# Altium footprint library Inductor_SMD.PcbLib: 587 footprints (part 12 of 37)
Each footprint in its own frame and in the unit in brackets; x right, y up, seen from the top. Pads: shape width x height; smd on the part's side, far side on the other; paste and mask are expansions set on the pad; w line width, h text height; cw(c..) or ccw(c..) is an arc to the next point about the centre after c.
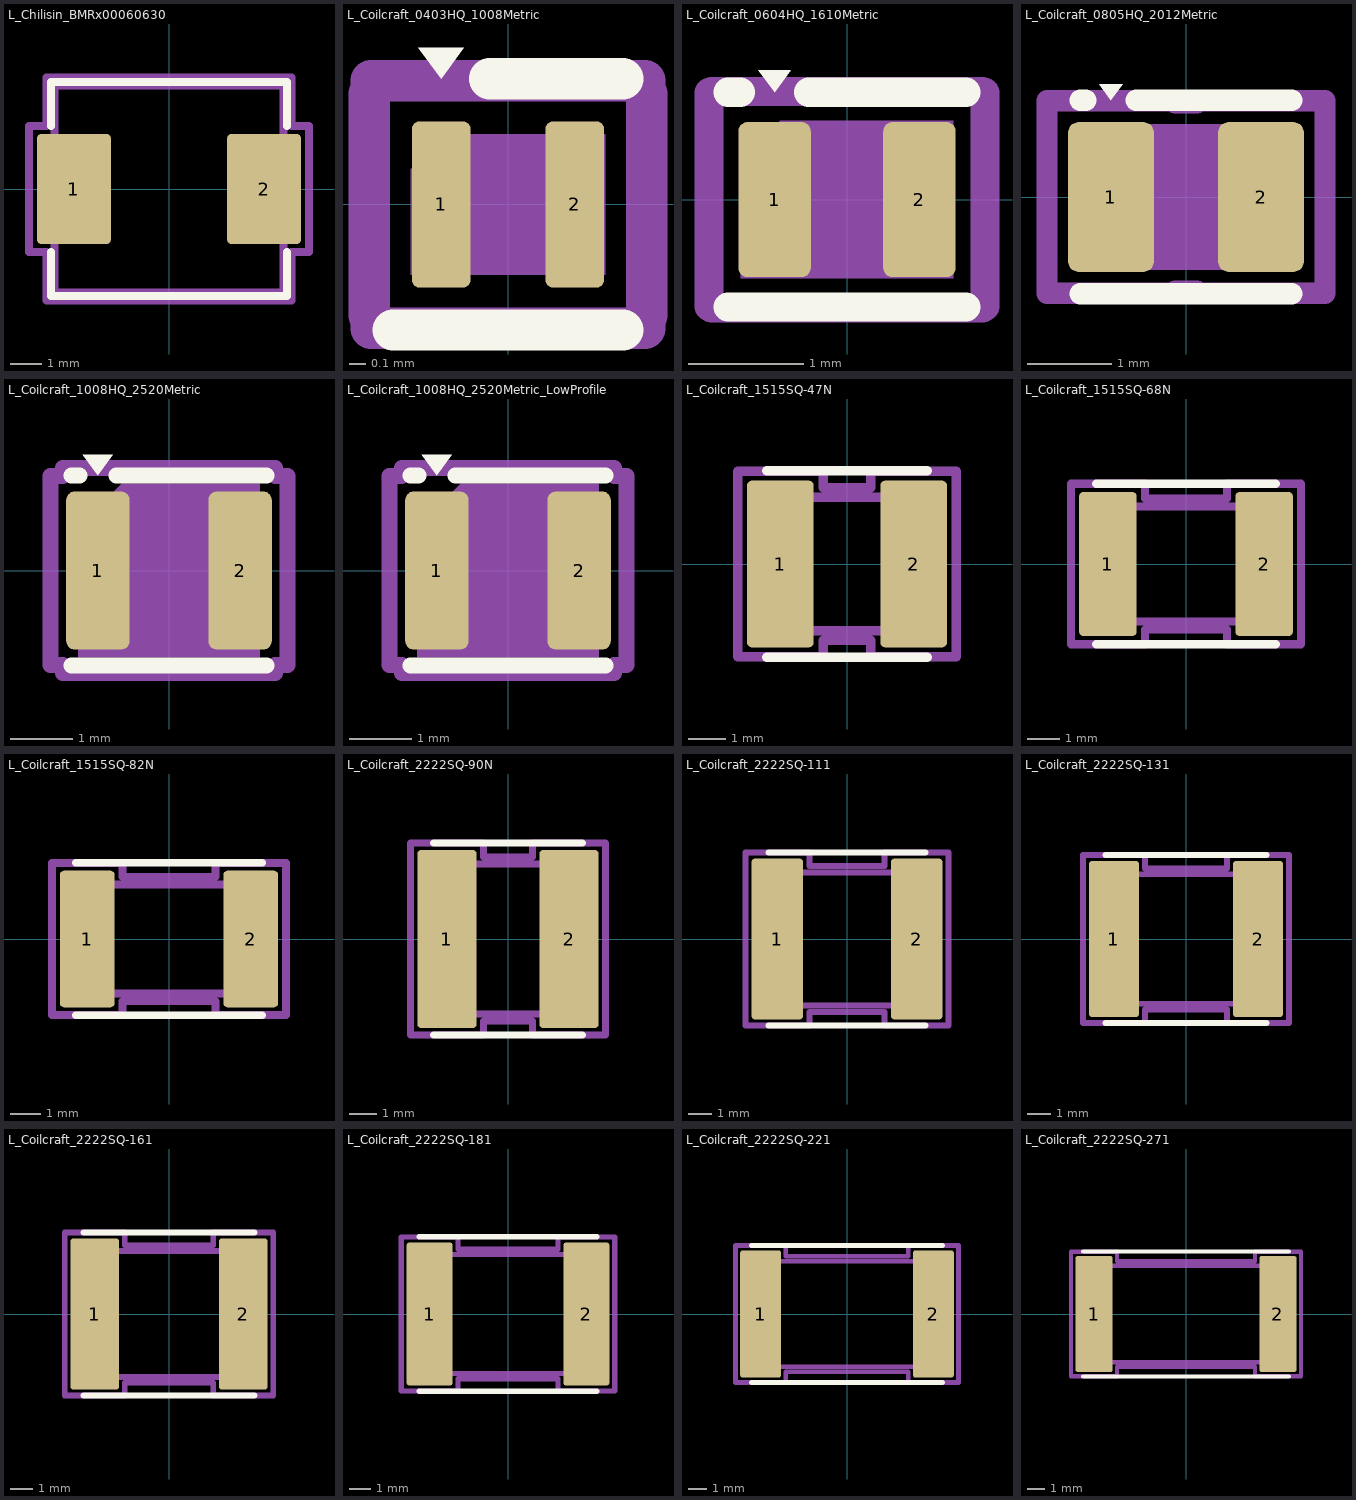
[diagram p11: the footprints below, top view; thin cyan lines are the x and y axes]

## L_Chilisin_BMRx00060630 [mm] "L_Chilisin_BMRx00060630"
pads (2):
  rrect11% 2.35x3.5 smd: 1(-3.025,0) 2(3.025,0)
F.SilkS:
  lines w0.254: -3.76,-2.01 -3.76,-3.41 3.76,-3.41 3.76,-2.01 ; -3.76,2.01 -3.76,3.41 3.76,3.41 3.76,2.01
Top Assembly:
  lines w0.254: -3.65,-3.3 -3.65,3.3 3.65,3.3 3.65,-3.3 -3.65,-3.3
  text "'.Designator'" at -4.047,-0.84 h1
Top Courtyard:
  lines w0.254: -4.45,-2 -4.45,2 -3.9,2 -3.9,3.55 3.9,3.55 3.9,2 4.45,2 4.45,-2 3.9,-2 3.9,-3.55 -3.9,-3.55 -3.9,-2 -4.45,-2
Top Designator:
  text ".Designator" at -7.618,-0.508 h1.52
3D body "L_Chilisin_BMRx00060630.step": height 3, standoff 0, extent -3.655,-3.3 3.655,3.3

## L_Coilcraft_0403HQ_1008Metric [mm] "L_Coilcraft_0403HQ_1008Metric"
pads (2):
  rrect25% 0.36x1.02 smd: 1(-0.41,0) 2(0.41,0)
F.SilkS:
  region: -0.41,0.77 -0.55,0.96 -0.27,0.96
  lines w0.254: -0.705,-0.77 0.705,-0.77 ; -0.112,0.77 0.705,0.77
Top Assembly:
  region: 0.595,-0.43 -0.595,-0.43 -0.595,0.215 -0.38,0.43 0.595,0.43
  lines w0.254: -0.395,-0.215 -0.395,0.215
  text "'.Designator'" at -1.209,-0.247 h0.3
Top Courtyard:
  lines w0.254: -0.85,-0.68 -0.85,0.68 -0.84,0.68 -0.84,0.76 0.84,0.76 0.84,0.68 0.85,0.68 0.85,-0.68 0.84,-0.68 0.84,-0.76 -0.84,-0.76 -0.84,-0.68 -0.85,-0.68
Top Designator:
  text ".Designator" at -7.658,-0.476 h1.52

## L_Coilcraft_0604HQ_1610Metric [mm] "L_Coilcraft_0604HQ_1610Metric"
pads (2):
  rrect25% 0.63x1.35 smd: 1(-0.63,0) 2(0.63,0)
F.SilkS:
  region: -0.63,0.935 -0.77,1.125 -0.49,1.125
  lines w0.254: -1.035,-0.935 1.035,-0.935 ; -1.035,0.935 -0.928,0.935 ; -0.332,0.935 1.035,0.935
Top Assembly:
  region: 0.925,-0.685 -0.925,-0.685 -0.925,0.343 -0.583,0.685 0.925,0.685
  lines w0.254: -0.725,-0.343 -0.725,0.343
  text "'.Designator'" at -1.863,-0.388 h0.46
Top Courtyard:
  lines w0.254: -1.2,-0.93 -1.2,0.93 -1.18,0.93 -1.18,0.94 1.18,0.94 1.18,0.93 1.2,0.93 1.2,-0.93 1.18,-0.93 1.18,-0.94 -1.18,-0.94 -1.18,-0.93 -1.2,-0.93
Top Designator:
  text ".Designator" at -7.688,-0.479 h1.52

## L_Coilcraft_0805HQ_2012Metric [mm] "L_Coilcraft_0805HQ_2012Metric"
pads (2):
  rrect25% 1.02x1.78 smd: 1(-0.89,0) 2(0.89,0)
F.SilkS:
  region: -0.89,1.15 -1.03,1.34 -0.75,1.34
  lines w0.254: -1.255,-1.15 1.255,-1.15 ; -1.255,1.15 -1.188,1.15 ; -0.592,1.15 1.255,1.15
Top Assembly:
  region: 1.145,-0.865 -1.145,-0.865 -1.145,0.433 -0.713,0.865 1.145,0.865
  lines w0.254: -0.916,-0.433 -0.916,0.433
  text "'.Designator'" at -2.311,-0.483 h0.57
Top Courtyard:
  lines w0.254: -1.65,-1.14 -1.65,1.14 -0.13,1.14 -0.13,1.12 0.13,1.12 0.13,1.14 1.65,1.14 1.65,-1.14 0.13,-1.14 0.13,-1.12 -0.13,-1.12 -0.13,-1.14 -1.65,-1.14
Top Designator:
  text ".Designator" at -7.708,-0.476 h1.52

## L_Coilcraft_1008HQ_2520Metric [mm] "L_Coilcraft_1008HQ_2520Metric"
pads (2):
  rrect25% 1.02x2.54 smd: 1(-1.145,0) 2(1.145,0)
F.SilkS:
  region: -1.145,1.53 -1.385,1.86 -0.905,1.86
  lines w0.254: -1.57,-1.53 1.57,-1.53 ; -1.57,1.53 -1.442,1.53 ; -0.848,1.53 1.57,1.53
Top Assembly:
  region: 1.46,-1.395 -1.46,-1.395 -1.46,0.697 -0.763,1.395 1.46,1.395
  lines w0.254: -1.168,-0.697 -1.168,0.697
  text "'.Designator'" at -2.955,-0.614 h0.73
Top Courtyard:
  lines w0.254: -1.91,-1.52 -1.71,-1.52 -1.71,-1.65 1.71,-1.65 1.71,-1.52 1.91,-1.52 1.91,1.52 1.71,1.52 1.71,1.65 -1.71,1.65 -1.71,1.52 -1.91,1.52 -1.91,-1.52
Top Designator:
  text ".Designator" at -7.728,-0.466 h1.52

## L_Coilcraft_1008HQ_2520Metric_LowProfile [mm] "L_Coilcraft_1008HQ_2520Metric_LowProfile"
pads (2):
  rrect25% 1.02x2.54 smd: 1(-1.145,0) 2(1.145,0)
F.SilkS:
  region: -1.145,1.53 -1.385,1.86 -0.905,1.86
  lines w0.254: -1.57,-1.53 1.57,-1.53 ; -1.57,1.53 -1.442,1.53 ; -0.848,1.53 1.57,1.53
Top Assembly:
  region: 1.46,-1.395 -1.46,-1.395 -1.46,0.697 -0.763,1.395 1.46,1.395
  lines w0.254: -1.168,-0.697 -1.168,0.697
  text "'.Designator'" at -2.955,-0.614 h0.73
Top Courtyard:
  lines w0.254: -1.91,-1.52 -1.71,-1.52 -1.71,-1.65 1.71,-1.65 1.71,-1.52 1.91,-1.52 1.91,1.52 1.71,1.52 1.71,1.65 -1.71,1.65 -1.71,1.52 -1.91,1.52 -1.91,-1.52
Top Designator:
  text ".Designator" at -7.728,-0.466 h1.52

## L_Coilcraft_1515SQ-47N [mm] "L_Coilcraft_1515SQ-47N"
pads (2):
  rrect14% 1.78x4.45 smd: 1(-1.78,0) 2(1.78,0)
F.SilkS:
  lines w0.254: -2.14,-2.485 2.14,-2.485 ; -2.14,2.485 2.14,2.485
Top Assembly:
  lines w0.254: -2.03,-1.78 -2.03,1.78 2.03,1.78 2.03,-1.78 -2.03,-1.78
  text "'.Designator'" at -4.047,-0.84 h1
Top Courtyard:
  lines w0.254: -2.92,-2.48 -2.92,2.48 -0.64,2.48 -0.64,2.03 0.64,2.03 0.64,2.48 2.92,2.48 2.92,-2.48 0.64,-2.48 0.64,-2.03 -0.64,-2.03 -0.64,-2.48 -2.92,-2.48
Top Designator:
  text ".Designator" at -7.768,-0.508 h1.52
3D body "L_Coilcraft_1515SQ-47N.step": height 3.73, standoff 0, extent -2.225,-1.78 2.225,1.78

## L_Coilcraft_1515SQ-68N [mm] "L_Coilcraft_1515SQ-68N"
pads (2):
  rrect14% 1.78x4.45 smd: 1(-2.415,0) 2(2.415,0)
F.SilkS:
  lines w0.254: -2.775,-2.485 2.775,-2.485 ; -2.775,2.485 2.775,2.485
Top Assembly:
  lines w0.254: -2.665,-1.78 2.665,-1.78 2.665,1.78 -2.665,1.78 -2.665,-1.78
  text "'.Designator'" at -4.047,-0.84 h1
Top Courtyard:
  lines w0.254: -3.56,-2.48 -1.27,-2.48 -1.27,-2.03 1.27,-2.03 1.27,-2.48 3.56,-2.48 3.56,2.48 1.27,2.48 1.27,2.03 -1.27,2.03 -1.27,2.48 -3.56,2.48 -3.56,-2.48
Top Designator:
  text ".Designator" at -7.768,-0.508 h1.52
3D body "L_Coilcraft_1515SQ-68N.step": height 3.73, standoff 0, extent -2.86,-1.78 2.86,1.78

## L_Coilcraft_1515SQ-82N [mm] "L_Coilcraft_1515SQ-82N"
pads (2):
  rrect14% 1.78x4.45 smd: 1(-2.665,0) 2(2.665,0)
F.SilkS:
  lines w0.254: -3.03,-2.485 3.03,-2.485 ; -3.03,2.485 3.03,2.485
Top Assembly:
  lines w0.254: -2.92,-1.78 2.92,-1.78 2.92,1.78 -2.92,1.78 -2.92,-1.78
  text "'.Designator'" at -4.047,-0.84 h1
Top Courtyard:
  lines w0.254: -3.81,-2.48 -1.52,-2.48 -1.52,-2.03 1.52,-2.03 1.52,-2.48 3.81,-2.48 3.81,2.48 1.52,2.48 1.52,2.03 -1.52,2.03 -1.52,2.48 -3.81,2.48 -3.81,-2.48
Top Designator:
  text ".Designator" at -7.747,-0.508 h1.52
3D body "L_Coilcraft_1515SQ-82N.step": height 3.73, standoff 0, extent -3.11,-1.78 3.11,1.78

## L_Coilcraft_2222SQ-90N [mm] "L_Coilcraft_2222SQ-90N"
pads (2):
  rrect12% 2.16x6.48 smd: 1(-2.225,0) 2(2.225,0)
F.SilkS:
  lines w0.254: -2.715,-3.5 2.715,-3.5 ; -2.715,3.5 2.715,3.5
Top Assembly:
  lines w0.254: -2.605,-2.73 -2.605,2.73 2.605,2.73 2.605,-2.73 -2.605,-2.73
  text "'.Designator'" at -4.047,-0.84 h1
Top Courtyard:
  lines w0.254: -3.56,-3.49 -3.56,3.49 -0.89,3.49 -0.89,2.98 0.89,2.98 0.89,3.49 3.56,3.49 3.56,-3.49 0.89,-3.49 0.89,-2.98 -0.89,-2.98 -0.89,-3.49 -3.56,-3.49
Top Designator:
  text ".Designator" at -7.768,-0.508 h1.52
3D body "L_Coilcraft_2222SQ-90N.step": height 5.68, standoff 0, extent -2.765,-2.73 2.765,2.73

## L_Coilcraft_2222SQ-111 [mm] "L_Coilcraft_2222SQ-111"
pads (2):
  rrect12% 2.16x6.73 smd: 1(-2.92,0) 2(2.92,0)
F.SilkS:
  lines w0.254: -3.285,-3.625 3.285,-3.625 ; -3.285,3.625 3.285,3.625
Top Assembly:
  lines w0.254: -3.175,-2.795 3.175,-2.795 3.175,2.795 -3.175,2.795 -3.175,-2.795
  text "'.Designator'" at -4.047,-0.84 h1
Top Courtyard:
  lines w0.254: -4.25,-3.62 -1.58,-3.62 -1.58,-3.05 1.58,-3.05 1.58,-3.62 4.25,-3.62 4.25,3.62 1.58,3.62 1.58,3.05 -1.58,3.05 -1.58,3.62 -4.25,3.62 -4.25,-3.62
Top Designator:
  text ".Designator" at -7.618,-0.508 h1.52
3D body "L_Coilcraft_2222SQ-111.step": height 5.69, standoff 0, extent -3.46,-2.795 3.46,2.795

## L_Coilcraft_2222SQ-131 [mm] "L_Coilcraft_2222SQ-131"
pads (2):
  rrect12% 2.16x6.73 smd: 1(-3.11,0) 2(3.11,0)
F.SilkS:
  lines w0.254: -3.475,-3.625 3.475,-3.625 ; -3.475,3.625 3.475,3.625
Top Assembly:
  lines w0.254: -3.365,-2.795 -3.365,2.795 3.365,2.795 3.365,-2.795 -3.365,-2.795
  text "'.Designator'" at -4.047,-0.84 h1
Top Courtyard:
  lines w0.254: -4.44,-3.62 -4.44,3.62 -1.77,3.62 -1.77,3.05 1.77,3.05 1.77,3.62 4.44,3.62 4.44,-3.62 1.77,-3.62 1.77,-3.05 -1.77,-3.05 -1.77,-3.62 -4.44,-3.62
Top Designator:
  text ".Designator" at -7.618,-0.508 h1.52
3D body "L_Coilcraft_2222SQ-131.step": height 5.69, standoff 0, extent -3.65,-2.795 3.65,2.795

## L_Coilcraft_2222SQ-161 [mm] "L_Coilcraft_2222SQ-161"
pads (2):
  rrect12% 2.16x6.73 smd: 1(-3.3,0) 2(3.3,0)
F.SilkS:
  lines w0.254: -3.795,-3.625 3.795,-3.625 ; -3.795,3.625 3.795,3.625
Top Assembly:
  lines w0.254: -3.685,-2.795 -3.685,2.795 3.685,2.795 3.685,-2.795 -3.685,-2.795
  text "'.Designator'" at -4.047,-0.84 h1
Top Courtyard:
  lines w0.254: -4.63,-3.62 -4.63,3.62 -1.96,3.62 -1.96,3.05 1.96,3.05 1.96,3.62 4.63,3.62 4.63,-3.62 1.96,-3.62 1.96,-3.05 -1.96,-3.05 -1.96,-3.62 -4.63,-3.62
Top Designator:
  text ".Designator" at -7.618,-0.508 h1.52
3D body "L_Coilcraft_2222SQ-161.step": height 5.69, standoff 0, extent -3.84,-2.795 3.84,2.795

## L_Coilcraft_2222SQ-181 [mm] "L_Coilcraft_2222SQ-181"
pads (2):
  rrect12% 2.16x6.73 smd: 1(-3.685,0) 2(3.685,0)
F.SilkS:
  lines w0.254: -4.175,-3.625 4.175,-3.625 ; -4.175,3.625 4.175,3.625
Top Assembly:
  lines w0.254: -4.065,-2.795 -4.065,2.795 4.065,2.795 4.065,-2.795 -4.065,-2.795
  text "'.Designator'" at -4.047,-0.84 h1
Top Courtyard:
  lines w0.254: -5.02,-3.62 -5.02,3.62 -2.35,3.62 -2.35,3.05 2.35,3.05 2.35,3.62 5.02,3.62 5.02,-3.62 2.35,-3.62 2.35,-3.05 -2.35,-3.05 -2.35,-3.62 -5.02,-3.62
Top Designator:
  text ".Designator" at -7.618,-0.508 h1.52
3D body "L_Coilcraft_2222SQ-181.step": height 5.69, standoff 0, extent -4.225,-2.795 4.225,2.795

## L_Coilcraft_2222SQ-221 [mm] "L_Coilcraft_2222SQ-221"
pads (2):
  rrect12% 2.16x6.73 smd: 1(-4.57,0) 2(4.57,0)
F.SilkS:
  lines w0.254: -5.065,-3.625 5.065,-3.625 ; -5.065,3.625 5.065,3.625
Top Assembly:
  lines w0.254: -4.955,-2.795 4.955,-2.795 4.955,2.795 -4.955,2.795 -4.955,-2.795
  text "'.Designator'" at -4.047,-0.84 h1
Top Courtyard:
  lines w0.254: -5.9,-3.62 -3.24,-3.62 -3.24,-3.05 3.24,-3.05 3.24,-3.62 5.9,-3.62 5.9,3.62 3.24,3.62 3.24,3.05 -3.24,3.05 -3.24,3.62 -5.9,3.62 -5.9,-3.62
Top Designator:
  text ".Designator" at -7.618,-0.508 h1.52
3D body "L_Coilcraft_2222SQ-221.step": height 5.69, standoff 0, extent -5.11,-2.795 5.11,2.795

## L_Coilcraft_2222SQ-271 [mm] "L_Coilcraft_2222SQ-271"
pads (2):
  rrect12% 2.16x6.73 smd: 1(-5.335,0) 2(5.335,0)
F.SilkS:
  lines w0.254: -5.95,-3.625 5.95,-3.625 ; -5.95,3.625 5.95,3.625
Top Assembly:
  lines w0.254: -5.84,-2.795 -5.84,2.795 5.84,2.795 5.84,-2.795 -5.84,-2.795
  text "'.Designator'" at -4.047,-0.84 h1
Top Courtyard:
  lines w0.254: -6.67,-3.62 -6.67,3.62 -4,3.62 -4,3.05 4,3.05 4,3.62 6.67,3.62 6.67,-3.62 4,-3.62 4,-3.05 -4,-3.05 -4,-3.62 -6.67,-3.62
Top Designator:
  text ".Designator" at -7.618,-0.508 h1.52
3D body "L_Coilcraft_2222SQ-271.step": height 5.69, standoff 0, extent -5.875,-2.795 5.875,2.795